# EAGLE library part 01STANDARD_TOR-6P-HT3.6 (library Wurth Electronics Midcom Inc V1-0)
Package Style: Standard TOR-6P-HT3.6 Mounting: SMD Pins: 6 pins Header: 250-0593 Best pinouts for production vary per application. Please contact Wurth Electronics Midcom, Inc. for assistance with your custom design. Website: Wurth Electronics Midcom <http://www.we-online.com/midcom> Contact us Wurth Electronics Midcom, Inc. 121 Airport Dr. Watertown, SD 57201 Phone: (605) 886-4385 Fax: (605) 886-4486 E-Mail: midcom@we-online.com
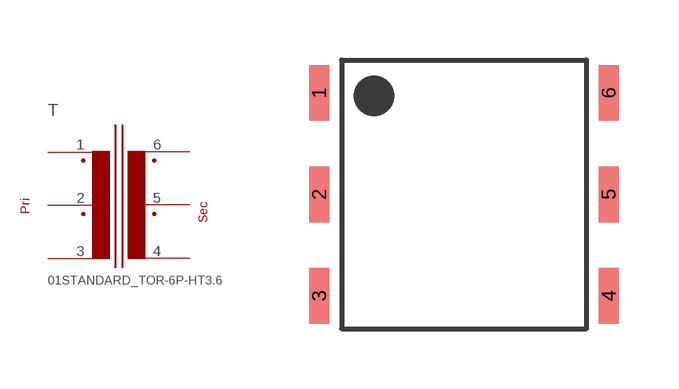
[diagram p139: symbol with the pads of 01STANDARD_TOR-6P-HT3.6; footprint 01STANDARD_TOR-6P-HT3.6]

Designator prefix T

## 01STANDARD_TOR-6P-HT3.6  [01STANDARD_TOR-6P-HT3.6]
1  1  pas
2  2  pas
3  3  pas
4  6  pas
5  5  pas
6  4  pas

## Footprint 01STANDARD_TOR-6P-HT3.6 (pad centres in mm)
Package Style: Standard TOR-6P-HT3.6 Mounting: SMD Pins: 6 pins Header: 250-0593
smd 0.508 x 1.397: 1 -3.619,2.54; 2 -3.619,0; 3 -3.619,-2.54; 4 3.619,-2.54; 5 3.619,0; 6 3.619,2.54